# Altium footprint library ISL8206MIRZ.PcbLib: 2 footprints
Each footprint in its own frame and in the unit in brackets; x right, y up, seen from the top. Pads: shape width x height; smd on the part's side, far side on the other; paste and mask are expansions set on the pad; w line width, h text height; cw(c..) or ccw(c..) is an arc to the next point about the centre after c.
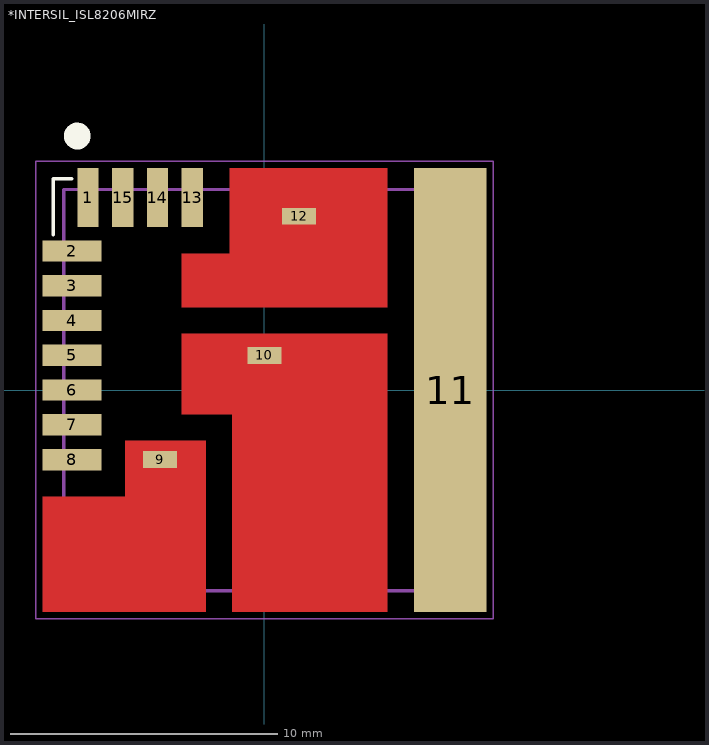
[diagram p0: the footprints below, top view; thin cyan lines are the x and y axes]

## *INTERSIL_ISL8206MIRZ [mm]
pads (15):
  rect 0.8x2.2 smd: 1(-6.6,7.2) 13(-2.7,7.2) 14(-4,7.2) 15(-5.3,7.2)
  rect 2.2x0.8 smd: 2(-7.2,5.2) 3(-7.2,3.9) 4(-7.2,2.6) 5(-7.2,1.3) 6(-7.2,0) 7(-7.2,-1.3) 8(-7.2,-2.6)
  rect 1.27x0.635 smd: 9(-3.9,-2.6) 10(0,1.3) 12(1.3,6.5)
  rect 2.7x16.6 smd: 11(6.95,0)
Top Layer:
  region: -3.1,-0.9 -3.1,2.1 4.6,2.1 4.6,-8.3 -1.2,-8.3 -1.2,-0.9
  region: -3.1,3.1 4.6,3.1 4.6,8.3 -1.3,8.3 -1.3,5.1 -3.1,5.1
  region: -5.2,-1.9 -2.2,-1.9 -2.2,-8.3 -8.3,-8.3 -8.3,-4 -5.2,-4
  region: -3.1,-0.9 -3.1,2.1 4.6,2.1 4.6,-8.3 -1.2,-8.3 -1.2,-0.9
Top Overlay:
  circle w0.5: c-7,9.5 r0.25
  lines w0.127: -7.9,5.8 -7.9,7.9 -7.2,7.9
Top Paste:
  drawing of 50 lines, arcs and shapes, not listed
Top Solder:
  region: -3.2,3 4.7,3 4.7,8.4 -1.4,8.4 -1.4,5.2 -3.2,5.2
  region: -5.3,-1.8 -2.1,-1.8 -2.1,-8.4 -8.4,-8.4 -8.4,-3.9 -5.3,-3.9
  region: -3.2,-1 -3.2,2.2 4.7,2.2 4.7,-8.4 -1.3,-8.4 -1.3,-1
Mechanical 13:
  lines w0.127: -7.5,-7.5 -7.5,7.5 ; -7.5,-7.5 7.5,-7.5 ; -7.5,-7.5 -7.5,7.5 ; -7.5,-7.5 7.5,-7.5 ; -7.5,7.5 7.5,7.5 ; -7.5,7.5 7.5,7.5 ; 7.5,-7.5 7.5,7.5 ; 7.5,-7.5 7.5,7.5
Mechanical 15:
  lines w0.05: -8.55,-8.55 8.55,-8.55 8.55,8.55 -8.55,8.55 -8.55,-8.55

## PCBComponent_1 [mm]